# Altium footprint library za_koncar.PcbLib: 43 footprints (part 1 of 3)
Each footprint in its own frame and in the unit in brackets; x right, y up, seen from the top. Pads: shape width x height; smd on the part's side, far side on the other; paste and mask are expansions set on the pad; w line width, h text height; cw(c..) or ccw(c..) is an arc to the next point about the centre after c.
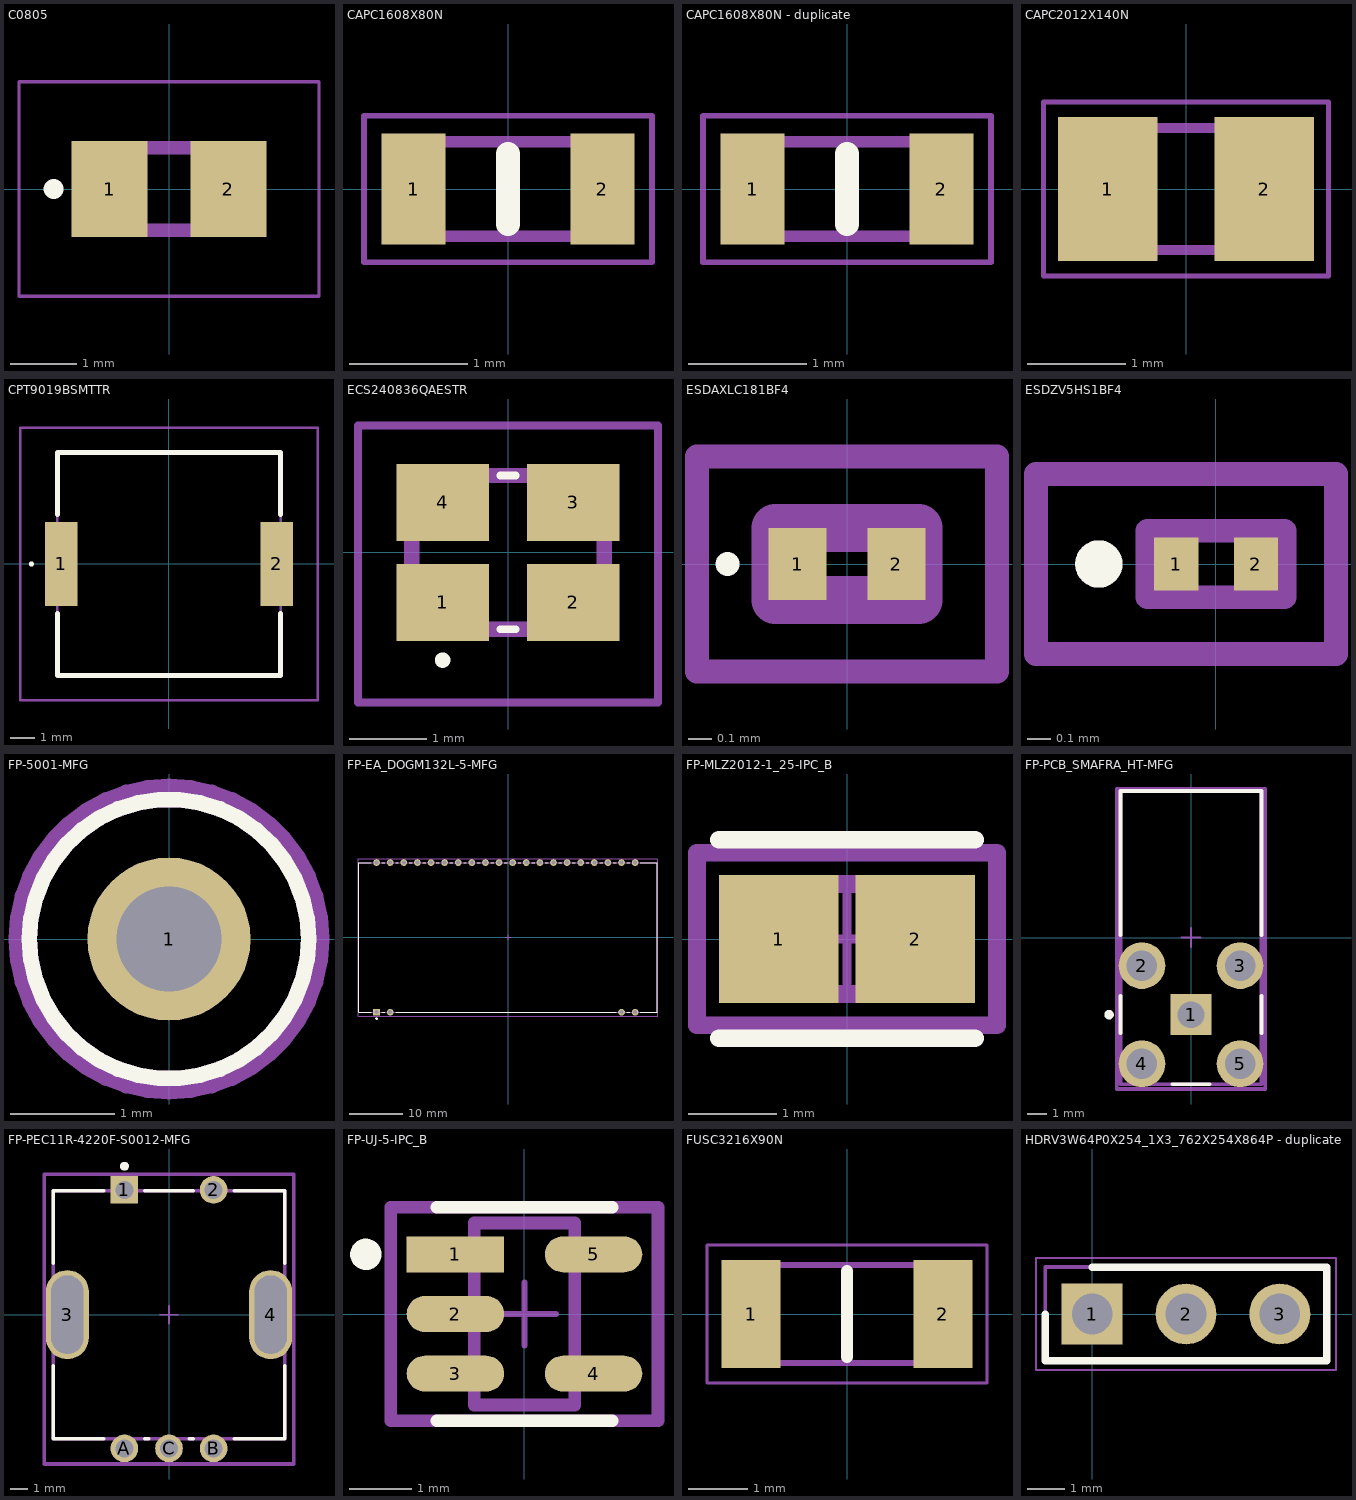
[diagram p0: the footprints below, top view; thin cyan lines are the x and y axes]

## C0805 [mm]
pads (2):
  rect 1.15x1.45 smd: 1(-0.9,0) 2(0.9,0)
Top Overlay:
  circle w0.2: c-1.75,0 r0.05
Mechanical 13:
  lines w0.2: -1,-0.625 -1,0.625 1,0.625 1,-0.625 -1,-0.625
Mechanical 15:
  lines w0.05: -2.275,-1.625 -2.275,1.625 2.275,1.625 2.275,-1.625 -2.275,-1.625
3D body "C0805C104K3RACTU.stp": height 0.98, standoff 0, extent -1.15,-0.78 1.15,0.77

## CAPC1608X80N [mm]
pads (2):
  rect 0.54x0.94 smd: 1(-0.8,0) 2(0.8,0)
Top Overlay:
  lines w0.2: 0,-0.3 0,0.3
Mechanical 13:
  lines w0.1: -0.8,-0.4 0.8,-0.4 0.8,0.4 -0.8,0.4 -0.8,-0.4
Mechanical 15:
  lines w0.05: -1.22,-0.62 1.22,-0.62 1.22,0.62 -1.22,0.62 -1.22,-0.62
3D body "C1608C0G1H040C080AA.stp": height 0.8, standoff 0, extent -0.8,-0.4 0.8,0.4

## CAPC1608X80N - duplicate [mm]
pads (2):
  rect 0.54x0.94 smd: 1(-0.8,0) 2(0.8,0)
Top Overlay:
  lines w0.2: 0,-0.3 0,0.3
Mechanical 13:
  lines w0.1: -0.8,-0.4 0.8,-0.4 0.8,0.4 -0.8,0.4 -0.8,-0.4
Mechanical 15:
  lines w0.05: -1.22,-0.62 1.22,-0.62 1.22,0.62 -1.22,0.62 -1.22,-0.62
3D body "C1608C0G1H040C080AA.stp": height 0.8, standoff 0, extent -0.8,-0.4 0.8,0.4

## CAPC2012X140N [mm]
pads (2):
  rect 1.02x1.47 smd: 1(-0.8,0) 2(0.8,0)
Mechanical 13:
  lines w0.1: -1,-0.625 -1,0.625 1,0.625 1,-0.625 -1,-0.625
Mechanical 15:
  lines w0.05: -1.46,-0.89 -1.46,0.89 1.46,0.89 1.46,-0.89 -1.46,-0.89
3D body "C0805C475K9PAC.stp": height 1.4, standoff 0, extent -1,-0.625 1,0.625

## CPT9019BSMTTR [mm]
pads (2):
  rect 1.3x3.4 smd: 1(-4.35,0) 2(4.35,0)
Top Overlay:
  lines w0.1: -5.6,0 cw(c-5.55,0) -5.5,0 cw(c-5.55,0) -5.6,0
  lines w0.2: -4.5,-2 -4.5,-4.5 4.5,-4.5 4.5,-2 ; -4.5,2 -4.5,4.5 4.5,4.5 4.5,2
Mechanical 13:
  lines w0.1: -4.5,-4.5 -4.5,4.5 4.5,4.5 4.5,-4.5 -4.5,-4.5
Mechanical 15:
  lines w0.1: -6,-5.5 -6,5.5 6,5.5 6,-5.5 -6,-5.5
3D body "CPT-9019B-SMT-TR.stp": height 1.91, standoff 0, extent -4.62,-4.5 4.62,4.5

## ECS240836QAESTR [mm]
pads (4):
  rect 1.2x1 smd: 1(-0.85,-0.65) 2(0.85,-0.65) 3(0.85,0.65) 4(-0.85,0.65)
Top Overlay:
  lines w0.1: -0.1,-1 0.1,-1 ; -0.1,1 0.1,1 ; -0.9,-1.4 cw(c-0.85,-1.4) -0.8,-1.4 cw(c-0.85,-1.4) -0.9,-1.4
Mechanical 13:
  lines w0.2: -1.25,-1 1.25,-1 1.25,1 -1.25,1 -1.25,-1
Mechanical 15:
  lines w0.1: -1.95,-1.95 1.95,-1.95 1.95,1.65 -1.95,1.65 -1.95,-1.95
3D body "ECS-320-12-36B-CKY-TR.stp": height 0.6, standoff 0, extent -1.25,-1.15 1.25,0.85

## ESDAXLC181BF4 [mm]
pads (2):
  rect 0.243x0.3 smd: 1(-0.207,0) 2(0.206,0)
Top Overlay:
  lines w0.05: -0.5,-0.025 ccw(c-0.5,0) -0.5,0.025 ccw(c-0.5,0) -0.5,-0.025
Mechanical 13:
  lines w0.2: -0.3,-0.15 -0.3,0.15 0.3,0.15 0.3,-0.15 -0.3,-0.15
Mechanical 15:
  lines w0.1: -0.628,-0.45 -0.628,0.45 0.627,0.45 0.627,-0.45 -0.628,-0.45
3D body "ESDAXLC18-1BF4.stp": height 0.42, standoff 0, extent -0.304,-0.15 0.303,0.15

## ESDZV5HS1BF4 [mm]
pads (2):
  rect 0.187x0.225 smd: 1(-0.168,0) 2(0.169,0)
Top Overlay:
  lines w0.1: -0.546,0 ccw(c-0.496,0) -0.446,0 ccw(c-0.496,0) -0.546,0
Mechanical 13:
  lines w0.1: -0.29,-0.14 0.29,-0.14 0.29,0.14 -0.29,0.14 -0.29,-0.14
Mechanical 15:
  lines w0.1: -0.762,-0.381 0.508,-0.381 0.508,0.381 -0.762,0.381 -0.762,-0.381
3D body "ESDZV5HS-1BF4.stp": height 0.32, standoff 0, extent -0.3,-0.15 0.3,0.15

## FP-5001-MFG [mm]
pads (1):
  round 1.57 hole 1.016 paste-2539.97 mask+0: 1(0,0)
Top Overlay:
  circle w0.15: c0,0 r1.345
Top 3D Body:
  circle w0.15: c0,0 r1.345
Top Courtyard:
  lines w0.2: -1.445,0 cw(c0,0) 1.445,0 cw(c0,0) -1.445,0
Top Assembly:
  text ".Designator" at 1.397,1.077 h1
Top Component Center:
  lines w0.1: -0.5,0 0.5,0 ; 0,-0.5 0,0.5
3D body "Conn_Keystone_5001_eec.STEP": height 0.25, standoff 0, extent -1.445,-1.445 1.445,1.445

## FP-EA_DOGM132L-5-MFG [mm]
pads (24):
  rect 1.25x1.25 hole 0.75 paste-2539.97 mask+0: 1(-24.53,-13.97)
  round 1.25 hole 0.75 paste-2539.97 mask+0: 2(-21.99,-13.97) 19(21.19,-13.97) 20(23.73,-13.97) 21(23.73,13.97) 22(21.19,13.97) 23(18.65,13.97) 24(16.11,13.97) 25(13.57,13.97) 26(11.03,13.97) 27(8.49,13.97) 28(5.95,13.97) 29(3.41,13.97) 30(0.87,13.97) 31(-1.67,13.97) 32(-4.21,13.97) 33(-6.75,13.97) 34(-9.29,13.97) 35(-11.83,13.97) 36(-14.37,13.97) 37(-16.91,13.97) 38(-19.45,13.97) 39(-21.99,13.97) 40(-24.53,13.97)
Top Overlay:
  circle w0.25: c-24.525,-15.17 r0.125
  lines w0.2: -25.53,-13.97 -27.9,-13.97 -27.9,13.97 -25.53,13.97 ; -23.53,-13.97 -22.99,-13.97 ; -23.53,13.97 -22.99,13.97 ; -20.99,-13.97 20.19,-13.97 ; -20.99,13.97 -20.45,13.97 ; -18.45,13.97 -17.91,13.97 ; -15.91,13.97 -15.37,13.97 ; -13.37,13.97 -12.83,13.97 ; -10.83,13.97 -10.29,13.97 ; -8.29,13.97 -7.75,13.97 ; -5.75,13.97 -5.21,13.97 ; -3.21,13.97 -2.67,13.97 ; -0.67,13.97 -0.13,13.97 ; 1.87,13.97 2.41,13.97 ; 4.41,13.97 4.95,13.97 ; 6.95,13.97 7.49,13.97 ; 9.49,13.97 10.03,13.97 ; 12.03,13.97 12.57,13.97 ; 14.57,13.97 15.11,13.97 ; 17.11,13.97 17.65,13.97 ; 19.65,13.97 20.19,13.97 ; 22.19,-13.97 22.73,-13.97 ; 22.19,13.97 22.73,13.97 ; 24.73,-13.97 27.9,-13.97 27.9,13.97 24.73,13.97
Top 3D Body:
  lines w0.2: -27.9,-13.97 27.9,-13.97 27.9,13.97 -27.9,13.97 -27.9,-13.97
Top Courtyard:
  lines w0.2: -28,-14.695 28,-14.695 28,14.695 -28,14.695 -28,-14.695
Top Assembly:
  lines w0.2: -28,-14.695 28,-14.695 28,14.695 -28,14.695 -28,-14.695
  text ".Designator" at 0,0.188 h1
Top Component Center:
  lines w0.1: -0.5,0 0.5,0 ; 0,-0.5 0,0.5
3D body "Disp_Electronic_Assembly_EA_DOGM132L-5_eec.STEP": height 0.25, standoff 0, extent -28,-14.695 28,14.695

## FP-MLZ2012-1_25-IPC_B [mm]
pads (2):
  rect 1.354x1.456 smd paste+0 mask+0: 1(-0.776,0) 2(0.776,0)
Top Overlay:
  lines w0.2: -1.453,-1.128 1.453,-1.128 ; -1.453,1.128 1.453,1.128
Top 3D Body:
  lines w0.2: -1,-0.625 1,-0.625 1,0.625 -1,0.625 -1,-0.625
Top Courtyard:
  lines w0.2: -1.703,-0.978 1.703,-0.978 1.703,0.978 -1.703,0.978 -1.703,-0.978
Top Assembly:
  lines w0.2: -1.703,-0.978 1.703,-0.978 1.703,0.978 -1.703,0.978 -1.703,-0.978
  text ".Designator" at 0,0.188 h1
Top Component Center:
  lines w0.1: -0.5,0 0.5,0 ; 0,-0.5 0,0.5
3D body "Ind_TDK_MLZ2012N100LTD25_eec.STEP": height 0.25, standoff 0, extent -1.703,-0.978 1.703,0.978

## FP-PCB_SMAFRA_HT-MFG [mm]
pads (5):
  rect 2.15x2.15 hole 1.4 paste-2539.97 mask+0: 1(0,-4.05)
  round 2.45 hole 1.6 paste-2539.97 mask+0: 2(-2.575,-1.475) 3(2.575,-1.475) 4(-2.575,-6.625) 5(2.575,-6.625)
Top Overlay:
  circle w0.25: c-4.3,-4.05 r0.125
  lines w0.2: -3.7,-5.025 -3.7,-3.075 ; -3.7,0.125 -3.7,7.7 3.7,7.7 3.7,0.125 ; -0.975,-7.7 0.975,-7.7 ; 3.7,-5.025 3.7,-3.075
Top 3D Body:
  lines w0.2: -3.7,-7.7 -3.7,7.7 3.7,7.7 3.7,-7.7 -3.7,-7.7
Top Courtyard:
  lines w0.2: -3.9,-7.95 -3.9,7.8 3.9,7.8 3.9,-7.95 -3.9,-7.95
Top Assembly:
  lines w0.2: -3.9,-7.95 -3.9,7.8 3.9,7.8 3.9,-7.95 -3.9,-7.95
  text ".Designator" at 0,-0.076 h1
Top Component Center:
  lines w0.1: -0.5,0 0.5,0 ; 0,-0.5 0,0.5
3D body "Conn_Taoglas_PCB_SMAFRA_HT_eec.STEP": height 0.25, standoff 0, extent -3.9,-7.95 3.9,7.8

## FP-PEC11R-4220F-S0012-MFG [mm]
pads (7):
  rect 1.55x1.55 hole 1 paste-2539.97 mask+0: 1(-2.5,7)
  round 1.55 hole 1 paste-2539.97 mask+0: 2(2.5,7) A(-2.5,-7.5) B(2.5,-7.5) C(0,-7.5)
  rrect100% 2.4x5 hole 4.4 slot 1.8 at 0 deg paste-2539.97 mask+0: 3(-5.7,0) 4(5.7,0)
Top Overlay:
  circle w0.25: c-2.5,8.325 r0.125
  lines w0.2: -6.5,-2.875 -6.5,-6.95 -3.65,-6.95 ; -6.5,2.875 -6.5,6.95 -3.65,6.95 ; -1.35,-6.95 -1.15,-6.95 ; -1.35,6.95 1.35,6.95 ; 1.15,-6.95 1.35,-6.95 ; 3.65,-6.95 6.5,-6.95 6.5,-2.875 ; 3.65,6.95 6.5,6.95 6.5,2.875
Top 3D Body:
  lines w0.2: -6.5,-6.95 -6.5,6.95 6.5,6.95 6.5,-6.95 -6.5,-6.95
Top Courtyard:
  lines w0.2: -7,-8.375 -7,7.875 7,7.875 7,-8.375 -7,-8.375
Top Assembly:
  lines w0.2: -7,-8.375 -7,7.875 7,7.875 7,-8.375 -7,-8.375
  text ".Designator" at 0,-0.062 h1
Top Component Center:
  lines w0.1: -0.5,0 0.5,0 ; 0,-0.5 0,0.5
3D body "Switch_Bourns_PEC11R-4220F-S0012_eec.STEP": height 0.25, standoff 0, extent -7,-8.375 7,7.875

## FP-UJ-5-IPC_B [mm]
pads (5):
  rect 1.554x0.572 smd paste+0 mask+0: 1(-1.1,0.95)
  rrect100% 1.554x0.572 smd paste+0 mask+0: 2(-1.1,0) 3(-1.1,-0.95) 4(1.1,-0.95) 5(1.1,0.95)
Top Overlay:
  circle w0.25: c-2.527,0.95 r0.125
  lines w0.2: -1.4,-1.7 1.4,-1.7 ; -1.4,1.7 1.4,1.7
Top 3D Body:
  lines w0.2: -0.8,-1.45 0.8,-1.45 0.8,1.45 -0.8,1.45 -0.8,-1.45
Top Courtyard:
  lines w0.2: -2.127,-1.7 2.127,-1.7 2.127,1.7 -2.127,1.7 -2.127,-1.7
Top Assembly:
  lines w0.2: -2.127,-1.7 2.127,-1.7 2.127,1.7 -2.127,1.7 -2.127,-1.7
  text ".Designator" at 0,-0.001 h1
Top Component Center:
  lines w0.1: -0.5,0 0.5,0 ; 0,-0.5 0,0.5
3D body "IC_Analog_Devices_ADP7142AUJZ-R7_eec.STEP": height 0.25, standoff 0, extent -2.127,-1.7 2.127,1.7

## FUSC3216X90N [mm]
pads (2):
  rect 0.99x1.82 smd: 1(-1.61,0) 2(1.61,0)
Top Overlay:
  lines w0.2: 0,-0.725 0,0.725
Mechanical 13:
  lines w0.1: -1.625,-0.825 1.625,-0.825 1.625,0.825 -1.625,0.825 -1.625,-0.825
Mechanical 15:
  lines w0.05: -2.355,-1.16 2.355,-1.16 2.355,1.16 -2.355,1.16 -2.355,-1.16
3D body "PTS120660V005.stp": height 0.71, standoff 0, extent -1.6,-0.8 1.6,0.8

## HDRV3W64P0X254_1X3_762X254X864P - duplicate [mm]
pads (3):
  rect 1.65x1.65 hole 1.1: 1(0,0)
  round 1.65 hole 1.1: 2(2.54,0) 3(5.08,0)
Top Overlay:
  lines w0.2: -1.27,0 -1.27,-1.27 6.35,-1.27 6.35,1.27 0,1.27
Mechanical 13:
  lines w0.1: -1.27,-1.27 6.35,-1.27 6.35,1.27 -1.27,1.27 -1.27,-1.27
Mechanical 15:
  lines w0.05: -1.52,-1.52 6.6,-1.52 6.6,1.52 -1.52,1.52 -1.52,-1.52
3D body "M20-9990346.stp": height 8.64, standoff -3, extent -1.27,-1.27 6.35,1.27